# EAGLE library part 634108150321 (library Eagle_WR-MJ (rev23b))
WR-MJ Modular Jack SMT Horizontal Mid-Mount Shielded Tab Up General Information Operating Temperature:-40 up to +85 °C Compliance:Lead free / RoHS Electrical Properties Working Voltage:125V (AC) Withstanding Voltage:1000V (AC) Contact Resistance:20mΩ RISO:1000 MΩ Material Properties Insulator MateriaL:LCP Insulator Flammability Rating:UL94 V-0 Color:Black Contact Material Copper Alloy Contact Plating: Gold Contact Type:Stamped Shielding Material:Brass Shielding Plating:Nickel Packaging Properties Packaging:Tape and Reel <https://www.we-online.com/catalog/media/o135236v209%20Family_WR-MJ_634108150321.jpg> Details see: https://www.we-online.com/catalog/en/MJ_SMT_HORIZONTAL_MID_MOUNT_SHIELDED_TAB_UP/ Updated by Yingchun,Shan 2020-1-3 2020 (C) Würth Elektronik
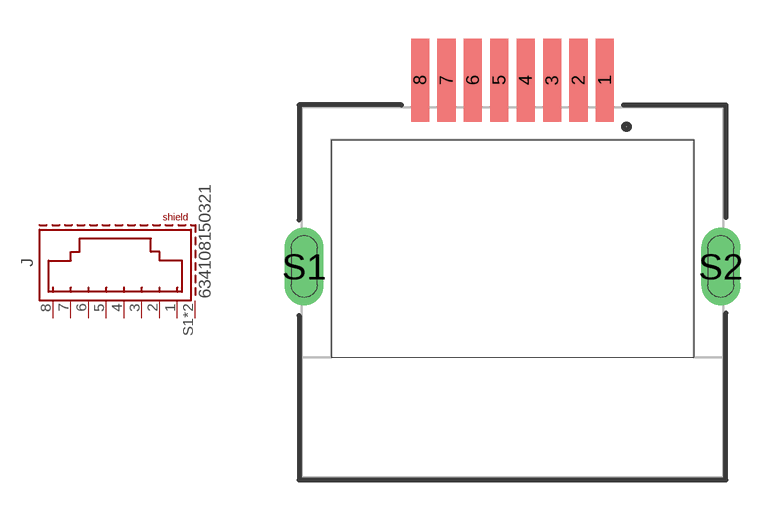
[diagram p63: symbol with the pads of 634108150321; footprint 634108150321]

Designator prefix J

## 634108150321 (DATASHEET-URL: https://www.we-online.com/redexpert/spec/634108150321?ae; MOUNT: SMT; PART-NUMBER: 634108150321; TYPE: Right Angle; VALUE: 634108150321; XPXC: 8P8C)  [634108150321]
1  1  pas
2  2  pas
3  3  pas
4  4  pas
5  5  pas
6  6  pas
7  7  pas
8  8  pas
S1  SHIELD  pas
S2  SHIELD  pas

## Footprint 634108150321 (pad centres in mm)
WR-MJ Modular Jack SMT Horizontal Mid-Mount Shielded Tab Up
smd 0.7 x 3.2: 1 3.57,8.2; 2 2.55,8.2; 3 1.53,8.2; 4 0.51,8.2; 5 -0.51,8.2; 6 -1.53,8.2; 7 -2.55,8.2; 8 -3.57,8.2
drill 1 long: S1 -8.05,1; S2 8.05,1